# Altium footprint library SD103AWS-E3-08.PcbLib: 3 footprints
Each footprint in its own frame and in the unit in brackets; x right, y up, seen from the top. Pads: shape width x height; smd on the part's side, far side on the other; paste and mask are expansions set on the pad; w line width, h text height; cw(c..) or ccw(c..) is an arc to the next point about the centre after c.
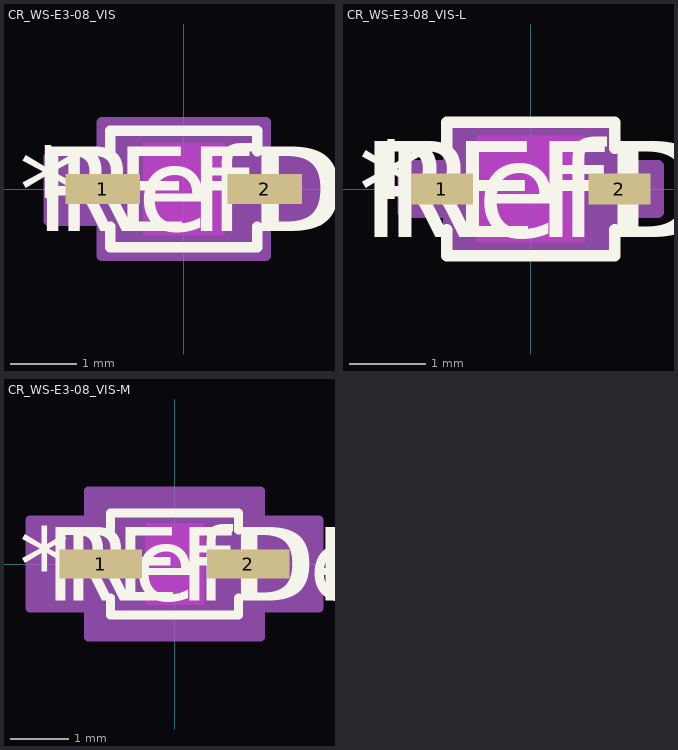
[diagram p0: the footprints below, top view; thin cyan lines are the x and y axes]

## CR_WS-E3-08_VIS [mil]
pads (2):
  rect 44x18 smd paste+0 mask+0: 1(-48,0) 2(48,0)
Top Overlay:
  lines w6: -43.5,-22.1 -43.5,-34.5 43.5,-34.5 43.5,-22.1 ; -43.5,22.1 -43.5,34.5 43.5,34.5 43.5,22.1
  text "REFDES" at -87.5,-25 h50
  text "*" at -97.5,-25 h50
  text "RefDes" at -75,-25 h50
Keep-Out Layer:
  region: -24,-27.5 -24,27.5 24,27.5 24,-27.5
Mechanical 13:
  lines w1: -38.5,-14.75 -23.75,-29.5 ; -38.5,14.75 -23.75,29.5 ; -56,-8 -56,8 -38.5,8 -38.5,-8 -56,-8 ; -38.5,-29.5 38.5,-29.5 38.5,29.5 -38.5,29.5 -38.5,-29.5 ; 38.5,-8 38.5,8 56,8 56,-8 38.5,-8
  text "*" at -41,-25 h50
  text "RefDes2" at -87.5,-25 h50
Mechanical 15:
  region: -48.5,-19 -80,-19 -80,19 -48.5,19 -48.5,39.5 48.5,39.5 48.5,19 80,19 80,-19 48.5,-19 48.5,-39.5 -48.5,-39.5
  lines w6: -80,-19 -80,19 -48.5,19 -48.5,39.5 48.5,39.5 48.5,19 80,19 80,-19 48.5,-19 48.5,-39.5 -48.5,-39.5 -48.5,-19 -80,-19
3D body "CR_WS-E3-08_VIS.step": height 45.12, standoff 0, extent -55.98,-29.49 55.98,29.49

## CR_WS-E3-08_VIS-L [mil]
pads (2):
  rect 32x16 smd paste+0 mask+0: 1(-46,0) 2(46,0)
Top Overlay:
  lines w6: -43.5,-21.1 -43.5,-34.5 43.5,-34.5 43.5,-21.1 ; -43.5,21.1 -43.5,34.5 43.5,34.5 43.5,21.1
  text "REFDES" at -87.5,-25 h50
  text "*" at -89.5,-25 h50
  text "RefDes" at -75,-25 h50
Keep-Out Layer:
  region: -28,-27.5 -28,27.5 28,27.5 28,-27.5
Mechanical 13:
  lines w1: -38.5,-14.75 -23.75,-29.5 ; -38.5,14.75 -23.75,29.5 ; -56,-8 -56,8 -38.5,8 -38.5,-8 -56,-8 ; -38.5,-29.5 38.5,-29.5 38.5,29.5 -38.5,29.5 -38.5,-29.5 ; 38.5,-8 38.5,8 56,8 56,-8 38.5,-8
  text "*" at -41,-25 h50
  text "RefDes2" at -87.5,-25 h50
Mechanical 15:
  region: -42.5,-12 -66,-12 -66,12 -42.5,12 -42.5,33.5 42.5,33.5 42.5,12 66,12 66,-12 42.5,-12 42.5,-33.5 -42.5,-33.5
  lines w6: -66,-12 -66,12 -42.5,12 -42.5,33.5 42.5,33.5 42.5,12 66,12 66,-12 42.5,-12 42.5,-33.5 -42.5,-33.5 -42.5,-12 -66,-12
3D body "CR_WS-E3-08_VIS.step": height 45.12, standoff 0, extent -55.98,-29.49 55.98,29.49

## CR_WS-E3-08_VIS-M [mil]
pads (2):
  rect 56x20 smd paste+0 mask+0: 1(-50,0) 2(50,0)
Top Overlay:
  lines w6: -43.5,-23.1 -43.5,-34.5 43.5,-34.5 43.5,-23.1 ; -43.5,23.1 -43.5,34.5 43.5,34.5 43.5,23.1
  text "REFDES" at -87.5,-25 h50
  text "*" at -105.5,-25 h50
  text "RefDes" at -75,-25 h50
Keep-Out Layer:
  region: -20,-27.5 -20,27.5 20,27.5 20,-27.5
Mechanical 13:
  lines w1: -38.5,-14.75 -23.75,-29.5 ; -38.5,14.75 -23.75,29.5 ; -56,-8 -56,8 -38.5,8 -38.5,-8 -56,-8 ; -38.5,-29.5 38.5,-29.5 38.5,29.5 -38.5,29.5 -38.5,-29.5 ; 38.5,-8 38.5,8 56,8 56,-8 38.5,-8
  text "*" at -41,-25 h50
  text "RefDes2" at -87.5,-25 h50
Mechanical 15:
  region: -58.5,-30 -98,-30 -98,30 -58.5,30 -58.5,49.5 58.5,49.5 58.5,30 98,30 98,-30 58.5,-30 58.5,-49.5 -58.5,-49.5
  lines w6: -98,-30 -98,30 -58.5,30 -58.5,49.5 58.5,49.5 58.5,30 98,30 98,-30 58.5,-30 58.5,-49.5 -58.5,-49.5 -58.5,-30 -98,-30
3D body "CR_WS-E3-08_VIS.step": height 45.12, standoff 0, extent -55.98,-29.49 55.98,29.49